# EAGLE library part PLATINENVERBINDER-31 (library homepi)
31-poliger Steckverbinder
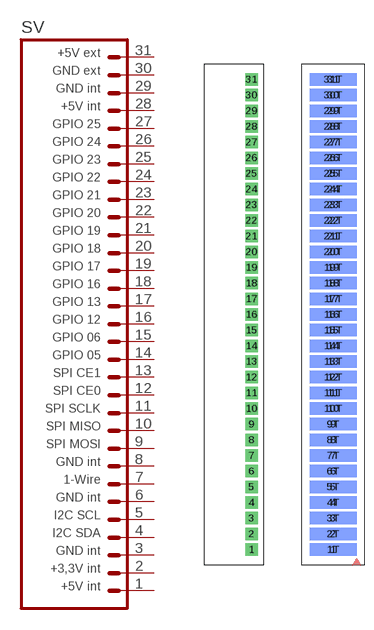
[diagram p0: symbol with the pads of PLATINENVERBINDER-31-PADS; footprints PLATINENVERBINDER-31-PADS, PLATINENVERBINDER-31-SMD]

Designator prefix SV

## PLATINENVERBINDER-31PADS  [PLATINENVERBINDER-31-PADS]
1  1  pas
2  2  pas
3  3  pas
4  4  pas
5  5  pas
6  6  pas
7  7  pas
8  8  pas
9  9  pas
10  10  pas
11  11  pas
12  12  pas
13  13  pas
14  14  pas
15  15  pas
16  16  pas
17  17  pas
18  18  pas
19  19  pas
20  20  pas
21  21  pas
22  22  pas
23  23  pas
24  24  pas
25  25  pas
26  26  pas
27  27  pas
28  28  pas
29  29  pas
30  30  pas
31  31  pas

## PLATINENVERBINDER-31SMD  [PLATINENVERBINDER-31-SMD]
1  1  pas
1T  1  pas
2  2  pas
2T  2  pas
3  3  pas
3T  3  pas
4  4  pas
4T  4  pas
5  5  pas
5T  5  pas
6  6  pas
6T  6  pas
7  7  pas
7T  7  pas
8  8  pas
8T  8  pas
9  9  pas
9T  9  pas
10  10  pas
10T  10  pas
11  11  pas
11T  11  pas
12  12  pas
12T  12  pas
13  13  pas
13T  13  pas
14  14  pas
14T  14  pas
15  15  pas
15T  15  pas
16  16  pas
16T  16  pas
17  17  pas
17T  17  pas
18  18  pas
18T  18  pas
19  19  pas
19T  19  pas
20  20  pas
20T  20  pas
21  21  pas
21T  21  pas
22  22  pas
22T  22  pas
23  23  pas
23T  23  pas
24  24  pas
24T  24  pas
25  25  pas
25T  25  pas
26  26  pas
26T  26  pas
27  27  pas
27T  27  pas
28  28  pas
28T  28  pas
29  29  pas
29T  29  pas
30  30  pas
30T  30  pas
31  31  pas
31T  31  pas

## PLATINENVERBINDER-31SMD-BOTTOM  [PLATINENVERBINDER-31-SMD_BOTTOM]
Pads as for PLATINENVERBINDER-31-PADS

## Footprint PLATINENVERBINDER-31-PADS (pad centres in mm)
31-poliger Steckverbinder
drill 0.8 pad 2.032 square: 1 2.54,-38.1; 2 2.54,-35.56; 3 2.54,-33.02; 4 2.54,-30.48; 5 2.54,-27.94; 6 2.54,-25.4; 7 2.54,-22.86; 8 2.54,-20.32; 9 2.54,-17.78; 10 2.54,-15.24; 11 2.54,-12.7; 12 2.54,-10.16; 13 2.54,-7.62; 14 2.54,-5.08; 15 2.54,-2.54; 16 2.54,0; 17 2.54,2.54; 18 2.54,5.08; 19 2.54,7.62; 20 2.54,10.16; 21 2.54,12.7; 22 2.54,15.24; 23 2.54,17.78; 24 2.54,20.32; 25 2.54,22.86; 26 2.54,25.4; 27 2.54,27.94; 28 2.54,30.48; 29 2.54,33.02; 30 2.54,35.56; 31 2.54,38.1

## Footprint PLATINENVERBINDER-31-SMD (pad centres in mm)
31-poliger Steckverbinder mit SMD-Pads
smd 7.62 x 2.032 bottom: 1 0,-38.1; 2 0,-35.56; 3 0,-33.02; 4 0,-30.48; 5 0,-27.94; 6 0,-25.4; 7 0,-22.86; 8 0,-20.32; 9 0,-17.78; 10 0,-15.24; 11 0,-12.7; 12 0,-10.16; 13 0,-7.62; 14 0,-5.08; 15 0,-2.54; 16 0,0; 17 0,2.54; 18 0,5.08; 19 0,7.62; 20 0,10.16; 21 0,12.7; 22 0,15.24; 23 0,17.78; 24 0,20.32; 25 0,22.86; 26 0,25.4; 27 0,27.94; 28 0,30.48; 29 0,33.02; 30 0,35.56; 31 0,38.1
smd 7.62 x 2.032: 1T 0,-38.1; 2T 0,-35.56; 3T 0,-33.02; 4T 0,-30.48; 5T 0,-27.94; 6T 0,-25.4; 7T 0,-22.86; 8T 0,-20.32; 9T 0,-17.78; 10T 0,-15.24; 11T 0,-12.7; 12T 0,-10.16; 13T 0,-7.62; 14T 0,-5.08; 15T 0,-2.54; 16T 0,0; 17T 0,2.54; 18T 0,5.08; 19T 0,7.62; 20T 0,10.16; 21T 0,12.7; 22T 0,15.24; 23T 0,17.78; 24T 0,20.32; 25T 0,22.86; 26T 0,25.4; 27T 0,27.94; 28T 0,30.48; 29T 0,33.02; 30T 0,35.56; 31T 0,38.1

## Footprint PLATINENVERBINDER-31-SMD_BOTTOM (pad centres in mm)
31-poliger Steckverbinder mit SMD-Pads
smd 3.81 x 2.032 bottom: 1 0,-38.1; 2 0,-35.56; 3 0,-33.02; 4 0,-30.48; 5 0,-27.94; 6 0,-25.4; 7 0,-22.86; 8 0,-20.32; 9 0,-17.78; 10 0,-15.24; 11 0,-12.7; 12 0,-10.16; 13 0,-7.62; 14 0,-5.08; 15 0,-2.54; 16 0,0; 17 0,2.54; 18 0,5.08; 19 0,7.62; 20 0,10.16; 21 0,12.7; 22 0,15.24; 23 0,17.78; 24 0,20.32; 25 0,22.86; 26 0,25.4; 27 0,27.94; 28 0,30.48; 29 0,33.02; 30 0,35.56; 31 0,38.1